# EAGLE library part DS2505P+ (library Maxim, Dallas)
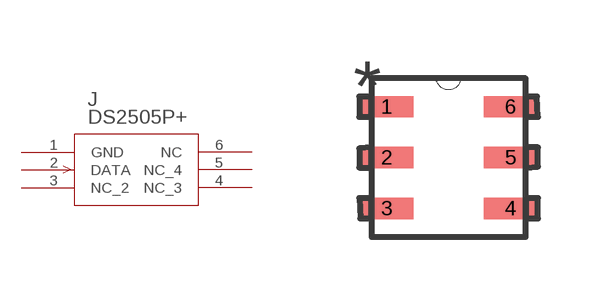
[diagram p0: symbol with the pads of 21-0382; footprint 21-0382]

Designator prefix J

## DS2505P+ (DATASHEET: http://datasheets.maxim-ic.com/en/ds/DS2505.pdf; DESCRIPTION: IC OTP 16KBIT 6TSOC; DIGIKEYPARTNUMBER: DS2505P+-ND; FORMAT-MEMORY: EPROMs; INTERFACE: 1-Wire Serial; MANUFACTURER_PART_NUMBER: DS2505P+; MEMORYSIZE: 16K (16K x 1); MEMORYTYPE: EPROM OTP; OPERATINGTEMPERATURE: -40°C ~ 85°C; PACKAGING: Tube; QUANTITY_AVAILABLE: 1638; SPEED: -; SUPPLIERDEVICEPACKAGE: 6-TSOC; VENDOR: Maxim Integrated Products; VOLTAGE-SUPPLY: -)  [21-0382]
1  GND  pwr
2  DATA  in
3  NC_2  nc
4  NC_3  nc
5  NC_4  nc
6  NC  nc

## Footprint 21-0382 (pad centres in mm)
smd 1.346 x 0.533: 1 -1.549,1.27; 2 -1.549,0; 3 -1.549,-1.27; 4 1.549,-1.27; 5 1.549,0; 6 1.549,1.27